# Altium footprint library DIP8.PcbLib: 1 footprints
Each footprint in its own frame and in the unit in brackets; x right, y up, seen from the top. Pads: shape width x height; smd on the part's side, far side on the other; paste and mask are expansions set on the pad; w line width, h text height; cw(c..) or ccw(c..) is an arc to the next point about the centre after c.
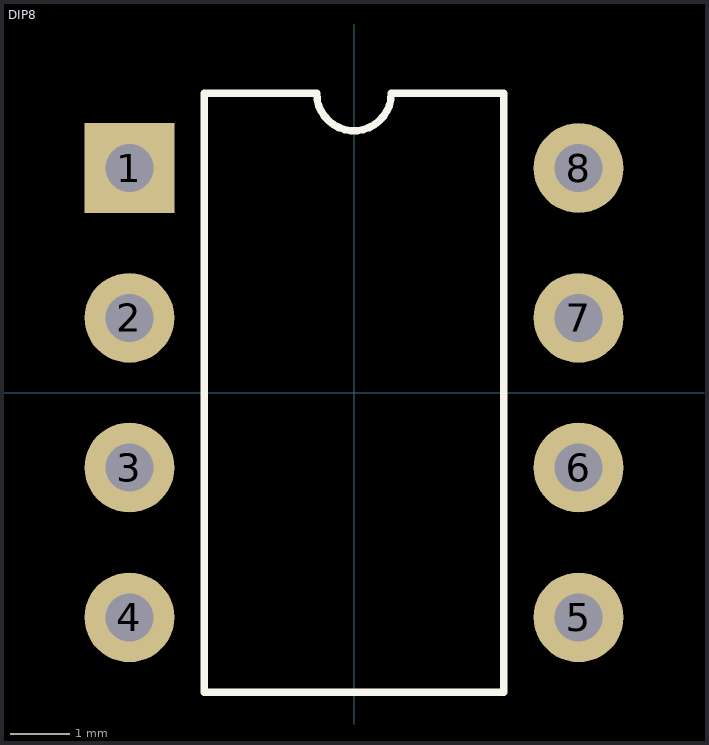
[diagram p0: the footprint, top view; thin cyan lines are the x and y axes]

## DIP8 [mil]
pads (8):
  rect 60x60 hole 32: 1(-150,150)
  round 60 hole 32: 2(-150,50) 3(-150,-50) 4(-150,-150) 5(150,-150) 6(150,-50) 7(150,50) 8(150,150)
Top Overlay:
  lines w5: -100,-200 -100,200 -25,200 ccw(c0,200) 25,200 100,200 100,-200 -100,-200
3D body "CircuitWorks-DIP 8 IC.step": height 203.94, standoff -133.86, extent -154.92,-214.96 154.92,214.96